# EAGLE library part 691401710022 (library Wurth_Elektronik_Electromechanic_Terminal_Blocks_Connectors_rev16b)
WR-TBL Terminal block - serie 401 5,0mm - Spring clamp/Screw less - horizontal entry Code:Con_TBL_Screwless_5.00_6914017100xxB Created 2014-12-22, aslant tao 2014 (C) Würth Elektronik
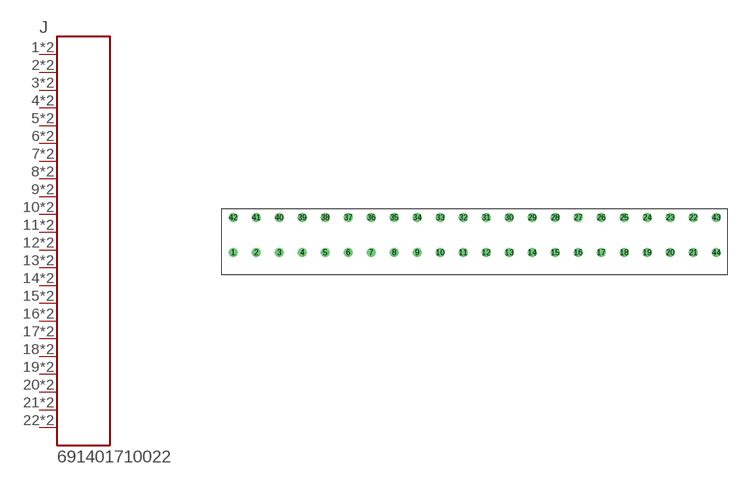
[diagram p228: symbol with the pads of 691401710022; footprint 691401710022]

Designator prefix J

## 691401710022  [691401710022]
1  1  pas
2  2  pas
3  3  pas
4  4  pas
5  5  pas
6  6  pas
7  7  pas
8  8  pas
9  9  pas
10  10  pas
11  11  pas
12  12  pas
13  13  pas
14  14  pas
15  15  pas
16  16  pas
17  17  pas
18  18  pas
19  19  pas
20  20  pas
21  21  pas
22  22  pas
23  22  pas
24  21  pas
25  20  pas
26  19  pas
27  18  pas
28  17  pas
29  16  pas
30  15  pas
31  14  pas
32  13  pas
33  12  pas
34  11  pas
35  10  pas
36  9  pas
37  8  pas
38  7  pas
39  6  pas
40  5  pas
41  4  pas
42  3  pas
43  2  pas
44  1  pas

## Footprint 691401710022 (pad centres in mm)
WR-TBL Serie 401 - 5.0mm Screwless Horizontal Entry - 2 mm2 Wires, 22 Pins
drill 1.3: 1 -55,0; 2 -50,0; 3 -45,0; 4 -40,0; 5 -35,0; 6 -30,0; 7 -25,0; 8 -20,0; 9 -15,0; 10 -10,0; 11 -5,0; 12 0,0; 13 5,0; 14 10,0; 15 15,0; 16 20,0; 17 25,0; 18 30,0; 19 35,0; 20 40,0; 21 45,0; 22 45,7.62; 23 40,7.62; 24 35,7.62; 25 30,7.62; 26 25,7.62; 27 20,7.62; 28 15,7.62; 29 10,7.62; 30 5,7.62; 31 0,7.62; 32 -5,7.62; 33 -10,7.62; 34 -15,7.62; 35 -20,7.62; 36 -25,7.62; 37 -30,7.62; 38 -35,7.62; 39 -40,7.62; 40 -45,7.62; 41 -50,7.62; 42 -55,7.62; 43 50,7.62; 44 50,0